# Altium footprint library SO-8 inverted.PcbLib: 1 footprints
Each footprint in its own frame and in the unit in brackets; x right, y up, seen from the top. Pads: shape width x height; smd on the part's side, far side on the other; paste and mask are expansions set on the pad; w line width, h text height; cw(c..) or ccw(c..) is an arc to the next point about the centre after c.
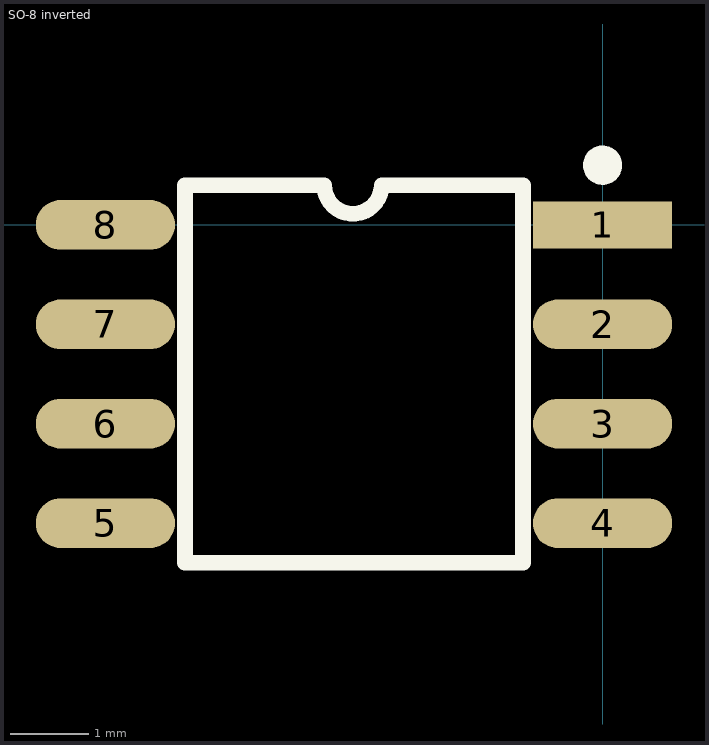
[diagram p0: the footprint, top view; thin cyan lines are the x and y axes]

## SO-8 inverted [mil]
pads (8):
  rect 70x23.62 smd: 1(0,0)
  oval 70x25 smd: 2(0,-50) 3(0,-100) 4(0,-150) 5(-250,-150) 6(-250,-100) 7(-250,-50) 8(-250,0)
Top Overlay:
  circle w9.84: c0,30 r4.92
  lines w7.87: -111.13,20 cw(c-125.56,20) -140,20 -210,20 -210,-170 -40,-170 -40,20 -110,20
3D body "SO-8.step": height 0, standoff -57, extent -238.75,-170.01 -11.25,22.99